# Altium footprint library Small Outline (~1.27mm Pitch) - 22+ Leads.PcbLib: 49 footprints (part 3 of 4)
Each footprint in its own frame and in the unit in brackets; x right, y up, seen from the top. Pads: shape width x height; smd on the part's side, far side on the other; paste and mask are expansions set on the pad; w line width, h text height; cw(c..) or ccw(c..) is an arc to the next point about the centre after c.
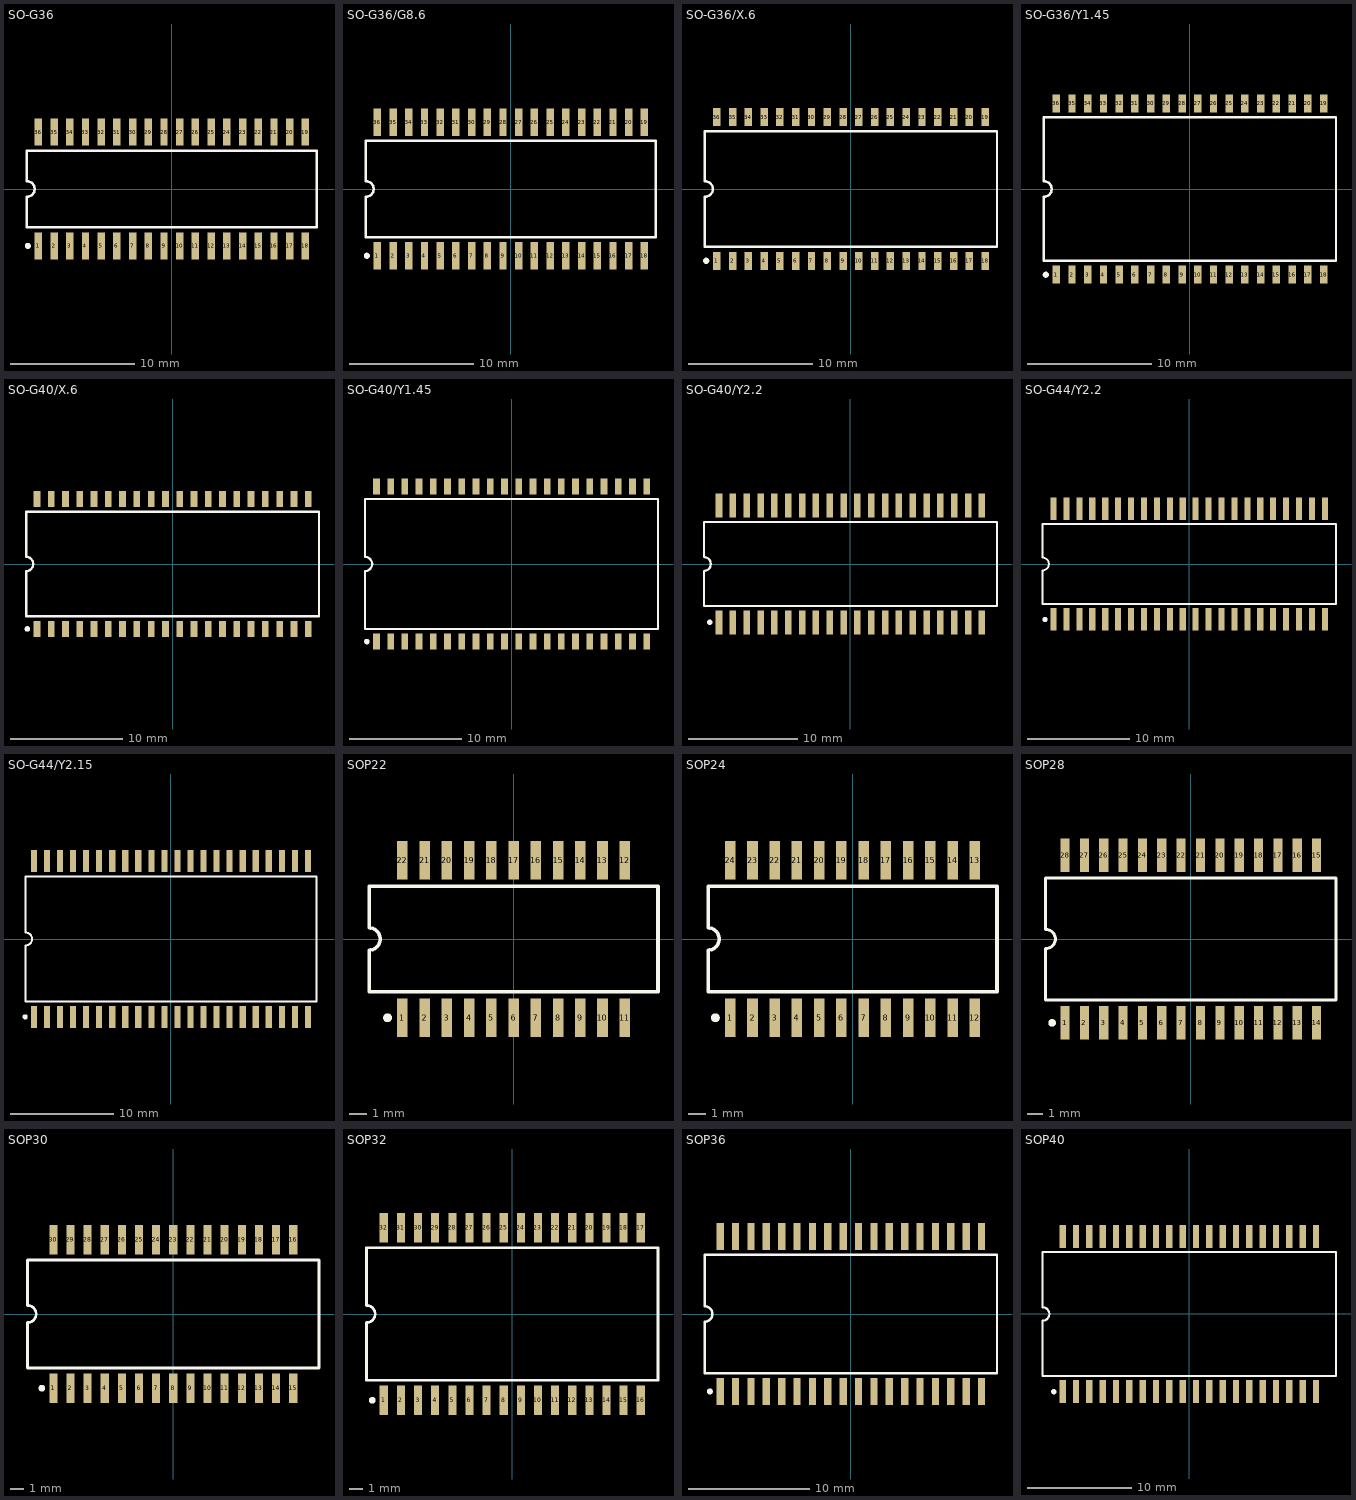
[diagram p2: the footprints below, top view; thin cyan lines are the x and y axes]

## SO-G36 [mm] "Small Outline; 36 Leads; Body Width 7.5 mm; Pitch 1.27 mm"
height 2.64
pads (36):
  rect 0.6x2.2 smd: 1(-10.795,-4.6) 2(-9.525,-4.6) 3(-8.255,-4.6) 4(-6.985,-4.6) 5(-5.715,-4.6) 6(-4.445,-4.6) 7(-3.175,-4.6) 8(-1.905,-4.6) 9(-0.635,-4.6) 10(0.635,-4.6) 11(1.905,-4.6) 12(3.175,-4.6) 13(4.445,-4.6) 14(5.715,-4.6) 15(6.985,-4.6) 16(8.255,-4.6) 17(9.525,-4.6) 18(10.795,-4.6) 19(10.795,4.6) 20(9.525,4.6) 21(8.255,4.6) 22(6.985,4.6) 23(5.715,4.6) 24(4.445,4.6) 25(3.175,4.6) 26(1.905,4.6) 27(0.635,4.6) 28(-0.635,4.6) 29(-1.905,4.6) 30(-3.175,4.6) 31(-4.445,4.6) 32(-5.715,4.6) 33(-6.985,4.6) 34(-8.255,4.6) 35(-9.525,4.6) 36(-10.795,4.6)
Top Overlay:
  circle w0.25: c-11.645,-4.6 r0.125
  lines w0.2: -11.725,-3.1 -11.725,-0.635 ccw(c-11.725,0) -11.725,0.635 -11.725,3.1 11.725,3.1 11.725,-3.1 -11.725,-3.1

## SO-G36/G8.6 [mm] "Small Outline; 36 Leads; Body Width 8.9 mm; Pitch 1.27 mm"
height 2.64
pads (36):
  rect 0.6x2.2 smd: 1(-10.795,-5.4) 2(-9.525,-5.4) 3(-8.255,-5.4) 4(-6.985,-5.4) 5(-5.715,-5.4) 6(-4.445,-5.4) 7(-3.175,-5.4) 8(-1.905,-5.4) 9(-0.635,-5.4) 10(0.635,-5.4) 11(1.905,-5.4) 12(3.175,-5.4) 13(4.445,-5.4) 14(5.715,-5.4) 15(6.985,-5.4) 16(8.255,-5.4) 17(9.525,-5.4) 18(10.795,-5.4) 19(10.795,5.4) 20(9.525,5.4) 21(8.255,5.4) 22(6.985,5.4) 23(5.715,5.4) 24(4.445,5.4) 25(3.175,5.4) 26(1.905,5.4) 27(0.635,5.4) 28(-0.635,5.4) 29(-1.905,5.4) 30(-3.175,5.4) 31(-4.445,5.4) 32(-5.715,5.4) 33(-6.985,5.4) 34(-8.255,5.4) 35(-9.525,5.4) 36(-10.795,5.4)
Top Overlay:
  circle w0.25: c-11.645,-5.4 r0.125
  lines w0.2: -11.725,-3.9 -11.725,-0.635 ccw(c-11.725,0) -11.725,0.635 -11.725,3.9 11.725,3.9 11.725,-3.9 -11.725,-3.9

## SO-G36/X.6 [mm] "Small Outline; 36 Leads; Body Width 10.16 mm; Pitch 1.27 mm"
height 1.2
pads (36):
  rect 0.6x1.45 smd: 1(-10.795,-5.775) 2(-9.525,-5.775) 3(-8.255,-5.775) 4(-6.985,-5.775) 5(-5.715,-5.775) 6(-4.445,-5.775) 7(-3.175,-5.775) 8(-1.905,-5.775) 9(-0.635,-5.775) 10(0.635,-5.775) 11(1.905,-5.775) 12(3.175,-5.775) 13(4.445,-5.775) 14(5.715,-5.775) 15(6.985,-5.775) 16(8.255,-5.775) 17(9.525,-5.775) 18(10.795,-5.775) 19(10.795,5.775) 20(9.525,5.775) 21(8.255,5.775) 22(6.985,5.775) 23(5.715,5.775) 24(4.445,5.775) 25(3.175,5.775) 26(1.905,5.775) 27(0.635,5.775) 28(-0.635,5.775) 29(-1.905,5.775) 30(-3.175,5.775) 31(-4.445,5.775) 32(-5.715,5.775) 33(-6.985,5.775) 34(-8.255,5.775) 35(-9.525,5.775) 36(-10.795,5.775)
Top Overlay:
  circle w0.25: c-11.645,-5.775 r0.125
  lines w0.2: -11.75,-4.65 -11.75,-0.635 ccw(c-11.75,0) -11.75,0.635 -11.75,4.65 11.75,4.65 11.75,-4.65 -11.75,-4.65

## SO-G36/Y1.45 [mm] "Small Outline; 36 Leads; Body Width 12.7 mm; Pitch 1.27 mm"
height 1.2
pads (36):
  rect 0.6x1.45 smd: 1(-10.795,-6.925) 2(-9.525,-6.925) 3(-8.255,-6.925) 4(-6.985,-6.925) 5(-5.715,-6.925) 6(-4.445,-6.925) 7(-3.175,-6.925) 8(-1.905,-6.925) 9(-0.635,-6.925) 10(0.635,-6.925) 11(1.905,-6.925) 12(3.175,-6.925) 13(4.445,-6.925) 14(5.715,-6.925) 15(6.985,-6.925) 16(8.255,-6.925) 17(9.525,-6.925) 18(10.795,-6.925) 19(10.795,6.925) 20(9.525,6.925) 21(8.255,6.925) 22(6.985,6.925) 23(5.715,6.925) 24(4.445,6.925) 25(3.175,6.925) 26(1.905,6.925) 27(0.635,6.925) 28(-0.635,6.925) 29(-1.905,6.925) 30(-3.175,6.925) 31(-4.445,6.925) 32(-5.715,6.925) 33(-6.985,6.925) 34(-8.255,6.925) 35(-9.525,6.925) 36(-10.795,6.925)
Top Overlay:
  circle w0.25: c-11.645,-6.925 r0.125
  lines w0.2: -11.8,-5.8 11.8,-5.8 11.8,5.8 -11.8,5.8 -11.8,0.635 cw(c-11.8,0) -11.8,-0.635 -11.8,-5.8

## SO-G40/X.6 [mm] "Small Outline; 40 Leads; Body Width 10.16 mm; Pitch 1.27 mm"
height 1.2
pads (40):
  rect 0.6x1.45 smd: 1(-12.065,-5.775) 2(-10.795,-5.775) 3(-9.525,-5.775) 4(-8.255,-5.775) 5(-6.985,-5.775) 6(-5.715,-5.775) 7(-4.445,-5.775) 8(-3.175,-5.775) 9(-1.905,-5.775) 10(-0.635,-5.775) 11(0.635,-5.775) 12(1.905,-5.775) 13(3.175,-5.775) 14(4.445,-5.775) 15(5.715,-5.775) 16(6.985,-5.775) 17(8.255,-5.775) 18(9.525,-5.775) 19(10.795,-5.775) 20(12.065,-5.775) 21(12.065,5.775) 22(10.795,5.775) 23(9.525,5.775) 24(8.255,5.775) 25(6.985,5.775) 26(5.715,5.775) 27(4.445,5.775) 28(3.175,5.775) 29(1.905,5.775) 30(0.635,5.775) 31(-0.635,5.775) 32(-1.905,5.775) 33(-3.175,5.775) 34(-4.445,5.775) 35(-5.715,5.775) 36(-6.985,5.775) 37(-8.255,5.775) 38(-9.525,5.775) 39(-10.795,5.775) 40(-12.065,5.775)
Top Overlay:
  circle w0.25: c-12.915,-5.775 r0.125
  lines w0.2: -13.025,-4.65 13.025,-4.65 13.025,4.65 -13.025,4.65 -13.025,0.635 cw(c-13.025,0) -13.025,-0.635 -13.025,-4.65

## SO-G40/Y1.45 [mm] "Small Outline; 40 Leads; Body Width 12.7 mm; Pitch 1.27 mm"
height 1.2
pads (40):
  rect 0.6x1.45 smd: 1(-12.065,-6.925) 2(-10.795,-6.925) 3(-9.525,-6.925) 4(-8.255,-6.925) 5(-6.985,-6.925) 6(-5.715,-6.925) 7(-4.445,-6.925) 8(-3.175,-6.925) 9(-1.905,-6.925) 10(-0.635,-6.925) 11(0.635,-6.925) 12(1.905,-6.925) 13(3.175,-6.925) 14(4.445,-6.925) 15(5.715,-6.925) 16(6.985,-6.925) 17(8.255,-6.925) 18(9.525,-6.925) 19(10.795,-6.925) 20(12.065,-6.925) 21(12.065,6.925) 22(10.795,6.925) 23(9.525,6.925) 24(8.255,6.925) 25(6.985,6.925) 26(5.715,6.925) 27(4.445,6.925) 28(3.175,6.925) 29(1.905,6.925) 30(0.635,6.925) 31(-0.635,6.925) 32(-1.905,6.925) 33(-3.175,6.925) 34(-4.445,6.925) 35(-5.715,6.925) 36(-6.985,6.925) 37(-8.255,6.925) 38(-9.525,6.925) 39(-10.795,6.925) 40(-12.065,6.925)
Top Overlay:
  circle w0.25: c-12.915,-6.925 r0.125
  lines w0.2: -13.075,-5.8 13.075,-5.8 13.075,5.8 -13.075,5.8 -13.075,0.635 cw(c-13.075,0) -13.075,-0.635 -13.075,-5.8

## SO-G40/Y2.2 [mm] "Small Outline; 40 Leads; Body Width 9.4 mm; Pitch 1.27 mm"
height 2.7
pads (40):
  rect 0.6x2.2 smd: 1(-12.065,-5.35) 2(-10.795,-5.35) 3(-9.525,-5.35) 4(-8.255,-5.35) 5(-6.985,-5.35) 6(-5.715,-5.35) 7(-4.445,-5.35) 8(-3.175,-5.35) 9(-1.905,-5.35) 10(-0.635,-5.35) 11(0.635,-5.35) 12(1.905,-5.35) 13(3.175,-5.35) 14(4.445,-5.35) 15(5.715,-5.35) 16(6.985,-5.35) 17(8.255,-5.35) 18(9.525,-5.35) 19(10.795,-5.35) 20(12.065,-5.35) 21(12.065,5.35) 22(10.795,5.35) 23(9.525,5.35) 24(8.255,5.35) 25(6.985,5.35) 26(5.715,5.35) 27(4.445,5.35) 28(3.175,5.35) 29(1.905,5.35) 30(0.635,5.35) 31(-0.635,5.35) 32(-1.905,5.35) 33(-3.175,5.35) 34(-4.445,5.35) 35(-5.715,5.35) 36(-6.985,5.35) 37(-8.255,5.35) 38(-9.525,5.35) 39(-10.795,5.35) 40(-12.065,5.35)
Top Overlay:
  circle w0.25: c-12.915,-5.35 r0.125
  lines w0.2: -13.45,-3.85 -13.45,-0.635 ccw(c-13.45,0) -13.45,0.635 -13.45,3.85 13.45,3.85 13.45,-3.85 -13.45,-3.85

## SO-G44/Y2.2 [mm] "Small Outline, Plastic, Battery Snaphat; 44 Leads; Body Width 8.6 mm; Pitch 1.27 mm"
height 3.05
pads (44):
  rect 0.6x2.2 smd: 1(-13.335,-5.45) 2(-12.065,-5.45) 3(-10.795,-5.45) 4(-9.525,-5.45) 5(-8.255,-5.45) 6(-6.985,-5.45) 7(-5.715,-5.45) 8(-4.445,-5.45) 9(-3.175,-5.45) 10(-1.905,-5.45) 11(-0.635,-5.45) 12(0.635,-5.45) 13(1.905,-5.45) 14(3.175,-5.45) 15(4.445,-5.45) 16(5.715,-5.45) 17(6.985,-5.45) 18(8.255,-5.45) 19(9.525,-5.45) 20(10.795,-5.45) 21(12.065,-5.45) 22(13.335,-5.45) 23(13.335,5.45) 24(12.065,5.45) 25(10.795,5.45) 26(9.525,5.45) 27(8.255,5.45) 28(6.985,5.45) 29(5.715,5.45) 30(4.445,5.45) 31(3.175,5.45) 32(1.905,5.45) 33(0.635,5.45) 34(-0.635,5.45) 35(-1.905,5.45) 36(-3.175,5.45) 37(-4.445,5.45) 38(-5.715,5.45) 39(-6.985,5.45) 40(-8.255,5.45) 41(-9.525,5.45) 42(-10.795,5.45) 43(-12.065,5.45) 44(-13.335,5.45)
Top Overlay:
  circle w0.25: c-14.185,-5.45 r0.125
  lines w0.2: -14.425,-3.95 14.425,-3.95 14.425,3.95 -14.425,3.95 -14.425,0.635 cw(c-14.425,0) -14.425,-0.635 -14.425,-3.95

## SO-G44/Y2.15 [mm] "Small Outline, Plastic; 44 Leads; Body Width 13.3 mm; Pitch 1.27 mm"
height 2.62
pads (44):
  rect 0.6x2.15 smd: 1(-13.335,-7.575) 2(-12.065,-7.575) 3(-10.795,-7.575) 4(-9.525,-7.575) 5(-8.255,-7.575) 6(-6.985,-7.575) 7(-5.715,-7.575) 8(-4.445,-7.575) 9(-3.175,-7.575) 10(-1.905,-7.575) 11(-0.635,-7.575) 12(0.635,-7.575) 13(1.905,-7.575) 14(3.175,-7.575) 15(4.445,-7.575) 16(5.715,-7.575) 17(6.985,-7.575) 18(8.255,-7.575) 19(9.525,-7.575) 20(10.795,-7.575) 21(12.065,-7.575) 22(13.335,-7.575) 23(13.335,7.575) 24(12.065,7.575) 25(10.795,7.575) 26(9.525,7.575) 27(8.255,7.575) 28(6.985,7.575) 29(5.715,7.575) 30(4.445,7.575) 31(3.175,7.575) 32(1.905,7.575) 33(0.635,7.575) 34(-0.635,7.575) 35(-1.905,7.575) 36(-3.175,7.575) 37(-4.445,7.575) 38(-5.715,7.575) 39(-6.985,7.575) 40(-8.255,7.575) 41(-9.525,7.575) 42(-10.795,7.575) 43(-12.065,7.575) 44(-13.335,7.575)
Top Overlay:
  circle w0.25: c-14.185,-7.575 r0.125
  lines w0.2: -14.15,-6.1 -14.15,-0.635 ccw(c-14.15,0) -14.15,0.635 -14.15,6.1 14.15,6.1 14.15,-6.1 -14.15,-6.1

## SOP22 [mm] "Small Outline; 22 Leads; Body Width 7.2 mm; Pitch 1.27 mm"
height 2.5
pads (22):
  rect 0.6x2.2 smd: 1(-6.35,-4.5) 2(-5.08,-4.5) 3(-3.81,-4.5) 4(-2.54,-4.5) 5(-1.27,-4.5) 6(0,-4.5) 7(1.27,-4.5) 8(2.54,-4.5) 9(3.81,-4.5) 10(5.08,-4.5) 11(6.35,-4.5) 12(6.35,4.5) 13(5.08,4.5) 14(3.81,4.5) 15(2.54,4.5) 16(1.27,4.5) 17(0,4.5) 18(-1.27,4.5) 19(-2.54,4.5) 20(-3.81,4.5) 21(-5.08,4.5) 22(-6.35,4.5)
Top Overlay:
  circle w0.25: c-7.2,-4.5 r0.125
  lines w0.2: -8.25,-3 8.25,-3 8.25,3 -8.25,3 -8.25,0.635 cw(c-8.25,0) -8.25,-0.635 -8.25,-3

## SOP24 [mm] "Small Outline; 24 Leads; Body Width 7.2 mm; Pitch 1.27 mm"
height 2.5
pads (24):
  rect 0.6x2.2 smd: 1(-6.985,-4.5) 2(-5.715,-4.5) 3(-4.445,-4.5) 4(-3.175,-4.5) 5(-1.905,-4.5) 6(-0.635,-4.5) 7(0.635,-4.5) 8(1.905,-4.5) 9(3.175,-4.5) 10(4.445,-4.5) 11(5.715,-4.5) 12(6.985,-4.5) 13(6.985,4.5) 14(5.715,4.5) 15(4.445,4.5) 16(3.175,4.5) 17(1.905,4.5) 18(0.635,4.5) 19(-0.635,4.5) 20(-1.905,4.5) 21(-3.175,4.5) 22(-4.445,4.5) 23(-5.715,4.5) 24(-6.985,4.5)
Top Overlay:
  circle w0.25: c-7.835,-4.5 r0.125
  lines w0.2: -8.25,-3 -8.25,-0.635 ccw(c-8.25,0) -8.25,0.635 -8.25,3 8.25,3 8.25,-3 -8.25,-3

## SOP28 [mm] "Small Outline; 28 Leads; Body Width 9.1 mm; Pitch 1.27 mm"
height 3
pads (28):
  rect 0.6x2.2 smd: 1(-8.255,-5.5) 2(-6.985,-5.5) 3(-5.715,-5.5) 4(-4.445,-5.5) 5(-3.175,-5.5) 6(-1.905,-5.5) 7(-0.635,-5.5) 8(0.635,-5.5) 9(1.905,-5.5) 10(3.175,-5.5) 11(4.445,-5.5) 12(5.715,-5.5) 13(6.985,-5.5) 14(8.255,-5.5) 15(8.255,5.5) 16(6.985,5.5) 17(5.715,5.5) 18(4.445,5.5) 19(3.175,5.5) 20(1.905,5.5) 21(0.635,5.5) 22(-0.635,5.5) 23(-1.905,5.5) 24(-3.175,5.5) 25(-4.445,5.5) 26(-5.715,5.5) 27(-6.985,5.5) 28(-8.255,5.5)
Top Overlay:
  circle w0.25: c-9.105,-5.5 r0.125
  lines w0.2: -9.525,-4 -9.525,-0.635 ccw(c-9.525,0) -9.525,0.635 -9.525,4 9.525,4 9.525,-4 -9.525,-4

## SOP30 [mm] "Small Outline; 30 Leads; Body Width 9.1 mm; Pitch 1.27 mm"
height 3
pads (30):
  rect 0.6x2.2 smd: 1(-8.89,-5.5) 2(-7.62,-5.5) 3(-6.35,-5.5) 4(-5.08,-5.5) 5(-3.81,-5.5) 6(-2.54,-5.5) 7(-1.27,-5.5) 8(0,-5.5) 9(1.27,-5.5) 10(2.54,-5.5) 11(3.81,-5.5) 12(5.08,-5.5) 13(6.35,-5.5) 14(7.62,-5.5) 15(8.89,-5.5) 16(8.89,5.5) 17(7.62,5.5) 18(6.35,5.5) 19(5.08,5.5) 20(3.81,5.5) 21(2.54,5.5) 22(1.27,5.5) 23(0,5.5) 24(-1.27,5.5) 25(-2.54,5.5) 26(-3.81,5.5) 27(-5.08,5.5) 28(-6.35,5.5) 29(-7.62,5.5) 30(-8.89,5.5)
Top Overlay:
  circle w0.25: c-9.74,-5.5 r0.125
  lines w0.2: -10.8,-4 -10.8,-0.635 ccw(c-10.8,0) -10.8,0.635 -10.8,4 10.8,4 10.8,-4 -10.8,-4

## SOP32 [mm] "Small Outline; 32 Leads; Body Width 11 mm; Pitch 1.27 mm"
height 3.5
pads (32):
  rect 0.6x2.2 smd: 1(-9.525,-6.4) 2(-8.255,-6.4) 3(-6.985,-6.4) 4(-5.715,-6.4) 5(-4.445,-6.4) 6(-3.175,-6.4) 7(-1.905,-6.4) 8(-0.635,-6.4) 9(0.635,-6.4) 10(1.905,-6.4) 11(3.175,-6.4) 12(4.445,-6.4) 13(5.715,-6.4) 14(6.985,-6.4) 15(8.255,-6.4) 16(9.525,-6.4) 17(9.525,6.4) 18(8.255,6.4) 19(6.985,6.4) 20(5.715,6.4) 21(4.445,6.4) 22(3.175,6.4) 23(1.905,6.4) 24(0.635,6.4) 25(-0.635,6.4) 26(-1.905,6.4) 27(-3.175,6.4) 28(-4.445,6.4) 29(-5.715,6.4) 30(-6.985,6.4) 31(-8.255,6.4) 32(-9.525,6.4)
Top Overlay:
  circle w0.25: c-10.375,-6.4 r0.125
  lines w0.2: -10.8,-4.9 10.8,-4.9 10.8,4.9 -10.8,4.9 -10.8,0.635 cw(c-10.8,0) -10.8,-0.635 -10.8,-4.9

## SOP36 [mm] "Small Outline; 36 Leads; Body Width 11 mm; Pitch 1.27 mm"
height 3.5
pads (36):
  rect 0.6x2.2 smd: 1(-10.795,-6.4) 2(-9.525,-6.4) 3(-8.255,-6.4) 4(-6.985,-6.4) 5(-5.715,-6.4) 6(-4.445,-6.4) 7(-3.175,-6.4) 8(-1.905,-6.4) 9(-0.635,-6.4) 10(0.635,-6.4) 11(1.905,-6.4) 12(3.175,-6.4) 13(4.445,-6.4) 14(5.715,-6.4) 15(6.985,-6.4) 16(8.255,-6.4) 17(9.525,-6.4) 18(10.795,-6.4) 19(10.795,6.4) 20(9.525,6.4) 21(8.255,6.4) 22(6.985,6.4) 23(5.715,6.4) 24(4.445,6.4) 25(3.175,6.4) 26(1.905,6.4) 27(0.635,6.4) 28(-0.635,6.4) 29(-1.905,6.4) 30(-3.175,6.4) 31(-4.445,6.4) 32(-5.715,6.4) 33(-6.985,6.4) 34(-8.255,6.4) 35(-9.525,6.4) 36(-10.795,6.4)
Top Overlay:
  circle w0.25: c-11.645,-6.4 r0.125
  lines w0.2: -12.075,-4.9 -12.075,-0.635 ccw(c-12.075,0) -12.075,0.635 -12.075,4.9 12.075,4.9 12.075,-4.9 -12.075,-4.9

## SOP40 [mm] "Small Outline; 40 Leads; Body Width 12.9 mm; Pitch 1.27 mm"
height 4
pads (40):
  rect 0.6x2.2 smd: 1(-12.065,-7.4) 2(-10.795,-7.4) 3(-9.525,-7.4) 4(-8.255,-7.4) 5(-6.985,-7.4) 6(-5.715,-7.4) 7(-4.445,-7.4) 8(-3.175,-7.4) 9(-1.905,-7.4) 10(-0.635,-7.4) 11(0.635,-7.4) 12(1.905,-7.4) 13(3.175,-7.4) 14(4.445,-7.4) 15(5.715,-7.4) 16(6.985,-7.4) 17(8.255,-7.4) 18(9.525,-7.4) 19(10.795,-7.4) 20(12.065,-7.4) 21(12.065,7.4) 22(10.795,7.4) 23(9.525,7.4) 24(8.255,7.4) 25(6.985,7.4) 26(5.715,7.4) 27(4.445,7.4) 28(3.175,7.4) 29(1.905,7.4) 30(0.635,7.4) 31(-0.635,7.4) 32(-1.905,7.4) 33(-3.175,7.4) 34(-4.445,7.4) 35(-5.715,7.4) 36(-6.985,7.4) 37(-8.255,7.4) 38(-9.525,7.4) 39(-10.795,7.4) 40(-12.065,7.4)
Top Overlay:
  circle w0.25: c-12.915,-7.4 r0.125
  lines w0.2: -13.975,-5.9 13.975,-5.9 13.975,5.9 -13.975,5.9 -13.975,0.635 cw(c-13.975,0) -13.975,-0.635 -13.975,-5.9